# Altium schematic symbol library mosfet_n_diode_r_vd.SchLib: 1 symbol
Pins are listed as number, name and electrical type; pins without a type are passive.

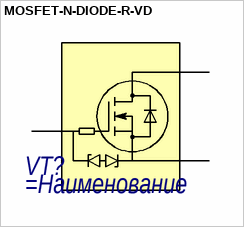
[diagram p0: symbol MOSFET-N-DIODE-R-VD]

## MOSFET-N-DIODE-R-VD
designator VT?
=Описание
pins: D, G, S